# Altium schematic symbol library Senior_SCH_Lib.SchLib: 10 symbols
Pins are listed as number, name and electrical type; pins without a type are passive.

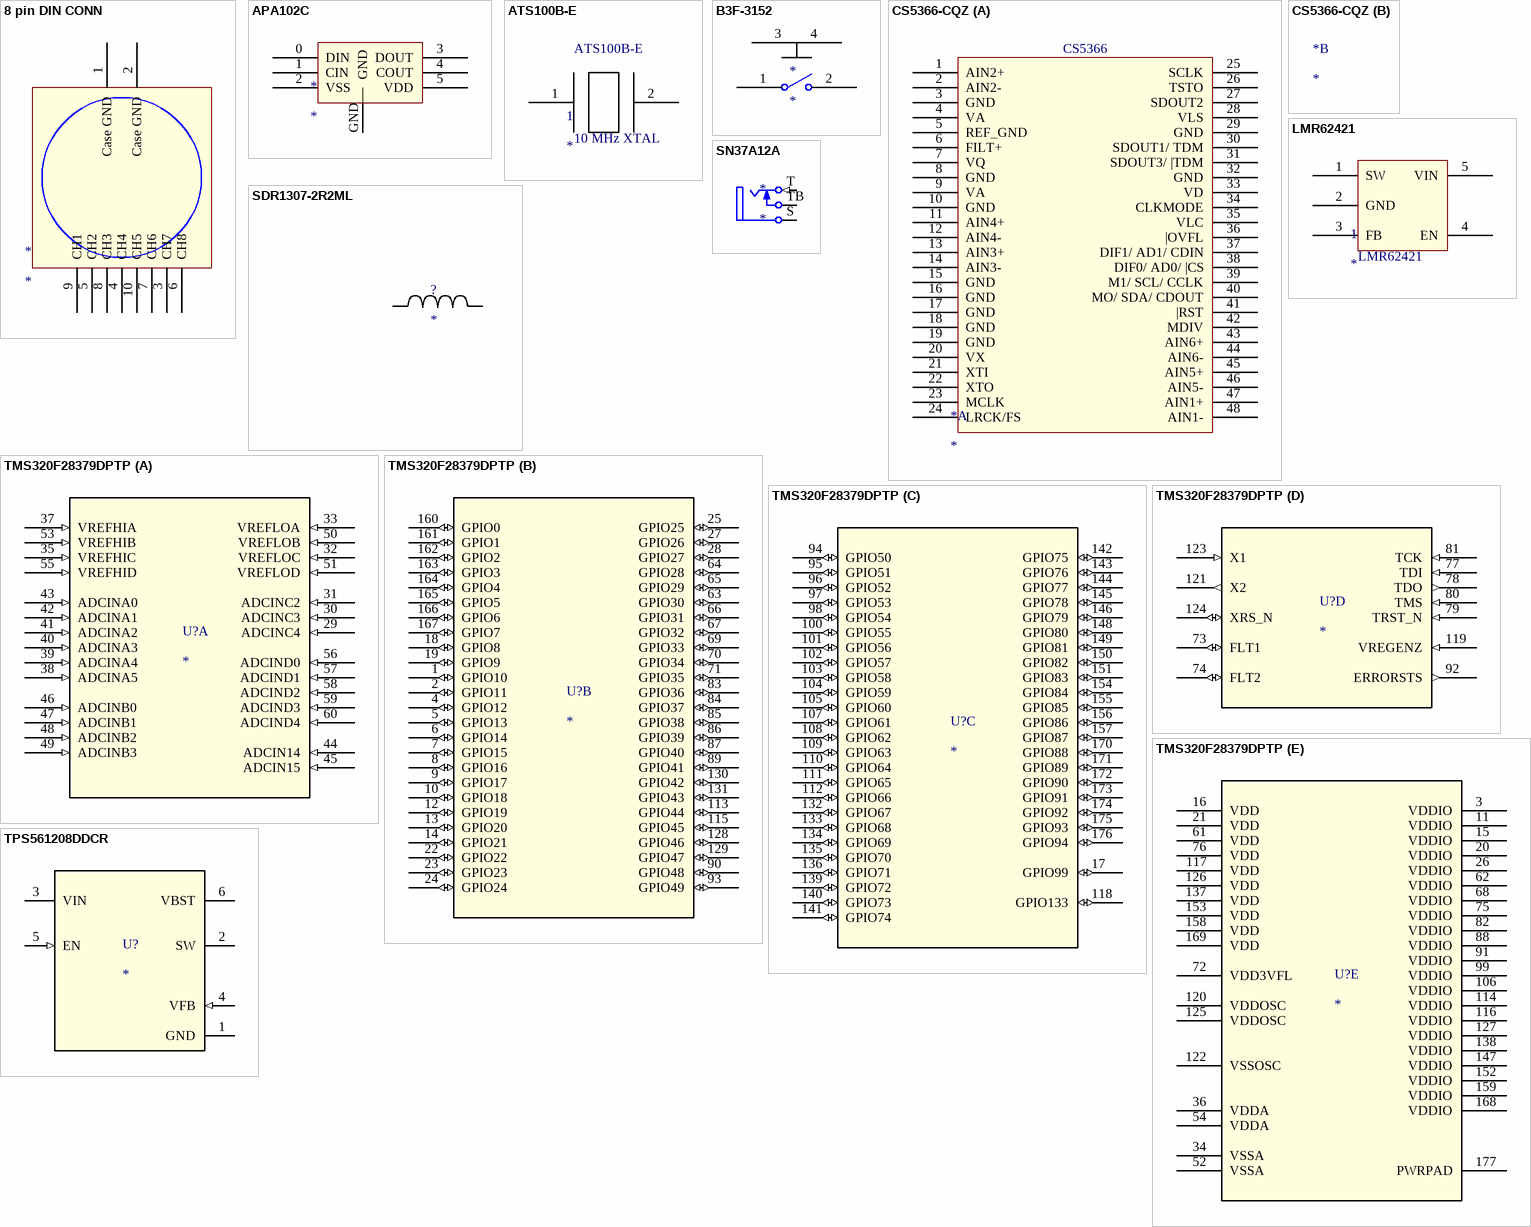
[diagram p0: symbols 8 pin DIN CONN to TPS561208DDCR]

## 8 pin DIN CONN
designator *
footprint 8 Pin DIN Conn
pins: 1 Case GND, 2 Case GND, 3 CH7, 4 CH4, 5 CH2, 6 CH8, 7 CH6, 8 CH3, 9 CH1, 10 CH5

## APA102C
designator *
footprint RGB LED (APA102C - 6-Pin SMT RGB LED)
pins: 0 DIN, 1 CIN, 2 VSS, 3 DOUT, 4 COUT, 5 VDD, GND

## ATS100B-E
designator 1
footprint ATS XTAL
pins: 1 51, 2 52
text: 10 MHz XTAL

## B3F-3152
designator *
footprint B3F-3152
pins: 1 3, 2 4, 3, 4

## CS5366-CQZ
designator *
footprint 48_LQFP (TSQFP, 48-Leads, Body 7.00x7.00mm, Pitch 0.60mm, IPC Medium Density)
part A pins: 1 AIN2+, 2 AIN2-, 3 GND, 4 VA, 5 REF_GND, 6 FILT+, 7 VQ, 8 GND, 9 VA, 10 GND, 11 AIN4+, 12 AIN4-, 13 AIN3+, 14 AIN3-, 15 GND, 16 GND, 17 GND, 18 GND, 19 GND, 20 VX, 21 XTI, 22 XTO, 23 MCLK, 24 LRCK/FS, 25 SCLK, 26 TSTO, 27 SDOUT2, 28 VLS, 29 GND, 30 SDOUT1/ TDM, 31 SDOUT3/ |TDM, 32 GND, 33 VD, 34 CLKMODE, 35 VLC, 36 |OVFL, 37 DIF1/ AD1/ CDIN, 38 DIF0/ AD0/ |CS, 39 M1/ SCL/ CCLK, 40 MO/ SDA/ CDOUT, 41 |RST, 42 MDIV, 43 AIN6+, 44 AIN6-, 45 AIN5+, 46 AIN5-, 47 AIN1+, 48 AIN1-
part A text: CS5366

## LMR62421
designator 1
footprint SOT23-6_N
pins: 1 SW, 2 GND, 3 FB, 4 EN, 5 VIN

## SDR1307-2R2ML
designator ?
Imported; Manufacturer_Part_Number: SDR1307-2R2ML; Vendor: Bourns; Manufacturer_Name: Bourns; RefDes: RefDes; TYPE: TYPE; Value: Value
footprint SDR1307
pins: 1, 2

## SN37A12A
designator *
footprint SN37A12A
pins: S (power) "Sleeve (Ground)", T (in) "Tip", TB "Tip Normal (Break Contact)"

## TMS320F28379DPTP
designator U?
Imported; PartNumber: TMS320F28379DPTPS; Manufacturer: Texas Instruments; RefDes: RefDes; TYPE: TYPE; Value: Value
footprint PTP0176F_N
part A pins: 29 ADCINC4 (in), 30 ADCINC3 (in), 31 ADCINC2 (in), 32 VREFLOC (in), 33 VREFLOA (in), 35 VREFHIC (in), 37 VREFHIA (in), 38 ADCINA5 (in), 39 ADCINA4 (in), 40 ADCINA3 (in), 41 ADCINA2 (in), 42 ADCINA1 (in), 43 ADCINA0 (in), 44 ADCIN14 (in), 45 ADCIN15 (in), 46 ADCINB0 (in), 47 ADCINB1 (in), 48 ADCINB2 (in), 49 ADCINB3 (in), 50 VREFLOB (in), 51 VREFLOD (in), 53 VREFHIB (in), 55 VREFHID (in), 56 ADCIND0 (in), 57 ADCIND1 (in), 58 ADCIND2 (in), 59 ADCIND3 (in), 60 ADCIND4 (in)
part B pins: 1 GPIO10 (io), 2 GPIO11 (io), 4 GPIO12 (io), 5 GPIO13 (io), 6 GPIO14 (io), 7 GPIO15 (io), 8 GPIO16 (io), 9 GPIO17 (io), 10 GPIO18 (io), 12 GPIO19 (io), 13 GPIO20 (io), 14 GPIO21 (io), 18 GPIO8 (io), 19 GPIO9 (io), 22 GPIO22 (io), 23 GPIO23 (io), 24 GPIO24 (io), 25 GPIO25 (io), 27 GPIO26 (io), 28 GPIO27 (io), 63 GPIO30 (io), 64 GPIO28 (io), 65 GPIO29 (io), 66 GPIO31 (io), 67 GPIO32 (io), 69 GPIO33 (io), 70 GPIO34 (io), 71 GPIO35 (io), 83 GPIO36 (io), 84 GPIO37 (io), 85 GPIO38 (io), 86 GPIO39 (io), 87 GPIO40 (io), 89 GPIO41 (io), 90 GPIO48 (io), 93 GPIO49 (io), 113 GPIO44 (io), 115 GPIO45 (io), 128 GPIO46 (io), 129 GPIO47 (io), 130 GPIO42 (io), 131 GPIO43 (io), 160 GPIO0 (io), 161 GPIO1 (io), 162 GPIO2 (io), 163 GPIO3 (io), 164 GPIO4 (io), 165 GPIO5 (io), 166 GPIO6 (io), 167 GPIO7 (io)
part C pins: 17 GPIO99 (io), 94 GPIO50 (io), 95 GPIO51 (io), 96 GPIO52 (io), 97 GPIO53 (io), 98 GPIO54 (io), 100 GPIO55 (io), 101 GPIO56 (io), 102 GPIO57 (io), 103 GPIO58 (io), 104 GPIO59 (io), 105 GPIO60 (io), 107 GPIO61 (io), 108 GPIO62 (io), 109 GPIO63 (io), 110 GPIO64 (io), 111 GPIO65 (io), 112 GPIO66 (io), 118 GPIO133 (io), 132 GPIO67 (io), 133 GPIO68 (io), 134 GPIO69 (io), 135 GPIO70 (io), 136 GPIO71 (io), 139 GPIO72 (io), 140 GPIO73 (io), 141 GPIO74 (io), 142 GPIO75 (io), 143 GPIO76 (io), 144 GPIO77 (io), 145 GPIO78 (io), 146 GPIO79 (io), 148 GPIO80 (io), 149 GPIO81 (io), 150 GPIO82 (io), 151 GPIO83 (io), 154 GPIO84 (io), 155 GPIO85 (io), 156 GPIO86 (io), 157 GPIO87 (io), 170 GPIO88 (io), 171 GPIO89 (io), 172 GPIO90 (io), 173 GPIO91 (io), 174 GPIO92 (io), 175 GPIO93 (io), 176 GPIO94 (io)
part D pins: 73 FLT1 (io), 74 FLT2 (io), 77 TDI (in), 78 TDO (out), 79 TRST_N (in), 80 TMS (in), 81 TCK (in), 92 ERRORSTS (out), 119 VREGENZ (in), 121 X2 (out), 123 X1 (in), 124 XRS_N (io)
part E pins: 3 VDDIO (power), 11 VDDIO (power), 15 VDDIO (power), 16 VDD (power), 20 VDDIO (power), 21 VDD (power), 26 VDDIO (power), 34 VSSA (power), 36 VDDA (power), 52 VSSA (power), 54 VDDA (power), 61 VDD (power), 62 VDDIO (power), 68 VDDIO (power), 72 VDD3VFL (power), 75 VDDIO (power), 76 VDD (power), 82 VDDIO (power), 88 VDDIO (power), 91 VDDIO (power), 99 VDDIO (power), 106 VDDIO (power), 114 VDDIO (power), 116 VDDIO (power), 117 VDD (power), 120 VDDOSC (power), 122 VSSOSC (power), 125 VDDOSC (power), 126 VDD (power), 127 VDDIO (power), 137 VDD (power), 138 VDDIO (power), 147 VDDIO (power), 152 VDDIO (power), 153 VDD (power), 158 VDD (power), 159 VDDIO (power), 168 VDDIO (power), 169 VDD (power), 177 PWRPAD (power)

## TPS561208DDCR
designator U?
Imported; PartNumber: TPS561208DDCR; Manufacturer: Texas Instruments; RefDes: RefDes; TYPE: TYPE; Value: Value; Manufacturer_Part_Number: TPS561208DDCR; Manufacturer_Name: Texas Instruments
footprint DDC0006A
pins: 1 GND (power), 2 SW (power), 3 VIN (power), 4 VFB (in), 5 EN (in), 6 VBST (power)